# Altium schematic symbol library Quadcopter.SchLib: 7 symbols
Pins are listed as number, name and electrical type; pins without a type are passive.

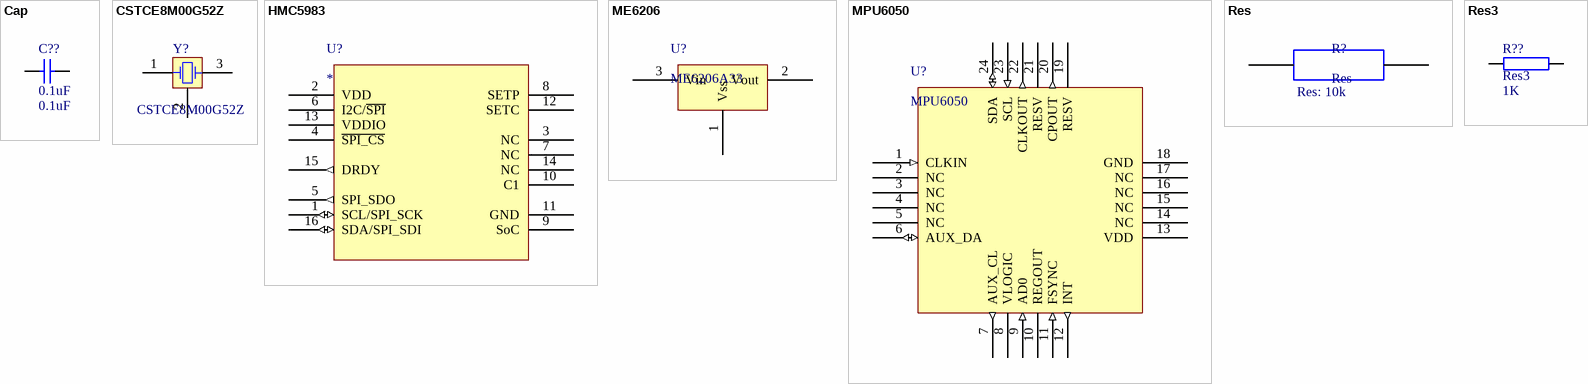
[diagram p0: symbols Cap to Res3]

## Cap
designator C??, comment 0.1uF
Capacitor (Semiconductor SIM Model); Published: 8-Jun-2000; LatestRevisionDate: 29-May-2009; LatestRevisionNote: IPC-7351 Footprint Added.; PackageReference: C1206; Publisher: Altium Limited; PackageDescription: Chip Capacitor; Value: 0.1uF
footprint C1206 (Chip Capacitor, Body 3.2x1.6mm, IPC High Density)
footprint 0402 (Chip Capacitor, Body 1.0x0.5mm, IPC High Density)
footprint C2512 (Chip Capacitor, Body 2.54x1.27mm, IPC High Density)
footprint 1608[0603] (Chip Capacitor, Body 1.6x0.8mm, IPC High Density)
footprint C1210 (Chip Capacitor, Body 3.2x2.5mm, IPC High Density)
simulation model CAP (Semiconductor Capacitor)
signal-integrity model Cap Semi
footprint c0805
pins: 1, 2

## CSTCE8M00G52Z
designator Y?
Crystal Oscillator, 3rd In-Line Lead Version
footprint X8MCSTCR
simulation model XTAL (SUBCKT)
pins: 1 OSC1, 2 COM, 3 OSC2

## HMC5983
designator U?
HMC5983, 16pin
footprint 16 Lead QFN 2
pins: 1 SCL/SPI_SCK (io), 2 VDD, 3 NC, 4 ~{SPI_CS}, 5 SPI_SDO (out), 6 I2C/~{SPI}, 7 NC, 8 SETP, 9 SoC, 10 C1, 11 GND, 12 SETC, 13 VDDIO, 14 NC, 15 DRDY (out), 16 SDA/SPI_SDI (io)

## ME6206
designator U?, comment ME6206A33
ME6206A33, SOT23
footprint SOT 23
pins: 1 Vss, 2 Vout, 3 Vin

## MPU6050
designator U?
MPU6050, 24pin
footprint 24 Lead QFN
pins: 1 CLKIN (in), 2 NC, 3 NC, 4 NC, 5 NC, 6 AUX_DA (io), 7 AUX_CL (out), 8 VLOGIC, 9 AD0 (in), 10 REGOUT, 11 FSYNC (in), 12 INT (out), 13 VDD, 14 NC, 15 NC, 16 NC, 17 NC, 18 GND, 19 RESV, 20 CPOUT (out), 21 RESV, 22 CLKOUT (out), 23 SCL (in), 24 SDA (io)

## Res
designator R?  Res: 10k
pins: 1, 2

## Res3
designator R??  value 1K
Resistor; Published: 8-Jun-2000; LatestRevisionDate: 29-May-2009; LatestRevisionNote: IPC-7351 Footprint Added.; PackageReference: J1-0603; Publisher: Altium Limited; PackageDescription: Chip Resistor
footprint 14-1210 (Chip Resistor, Body 3.2x2.5mm, IPC High Density)
footprint 12Z-2010 (Chip Resistor; Body 5 x 2.5 mm (LxW typ))
footprint RESC6332 (Chip Resistor, Body 6.3x3.2mm, IPC High Density)
simulation model RESISTOR (Resistor)
signal-integrity model Res
footprint 1206
footprint r0603
pins: 1, 2